# EAGLE library part ESP-04 (library esp8266modules)
ESP8266 Wifi Module ESP-04
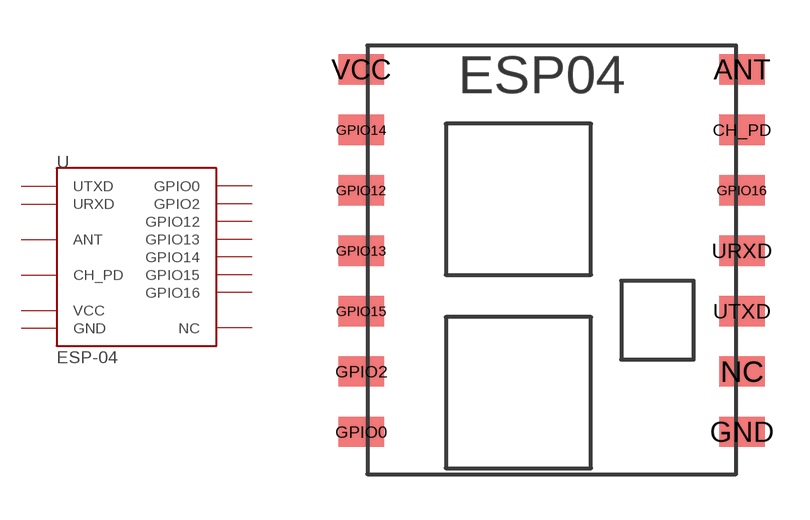
[diagram p11: symbol with the pads of ESP-04_SMD; footprint ESP-04_SMD]

Designator prefix U

## ESP-04 (DIMENSIONS: 14.7 x 12.1 mm; PINS: 14; PITCH: 0.078" / 2 mm)  [ESP-04_SMD]
ANT  ANT
CH_PD  CH_PD
GND  GND
GPIO0  GPIO0
GPIO2  GPIO2
GPIO12  GPIO12
GPIO13  GPIO13
GPIO14  GPIO14
GPIO15  GPIO15
GPIO16  GPIO16
NC  NC
URXD  URXD
UTXD  UTXD
VCC  VCC

## Footprint ESP-04_SMD (pad centres in mm)
ESP8266 Modules ESP-04
smd 1.5 x 1: ANT 12.48,7.34; CH_PD 12.48,5.34; GND 12.48,-4.66; GPIO0 -0.12,-4.66; GPIO2 -0.12,-2.66; GPIO12 -0.12,3.34; GPIO13 -0.12,1.34; GPIO14 -0.12,5.34; GPIO15 -0.12,-0.66; GPIO16 12.48,3.34; NC 12.48,-2.66; URXD 12.48,1.34; UTXD 12.48,-0.66; VCC -0.12,7.34